# Altium footprint library GL865_V4.PcbLib: 1 footprints
Each footprint in its own frame and in the unit in brackets; x right, y up, seen from the top. Pads: shape width x height; smd on the part's side, far side on the other; paste and mask are expansions set on the pad; w line width, h text height; cw(c..) or ccw(c..) is an arc to the next point about the centre after c.
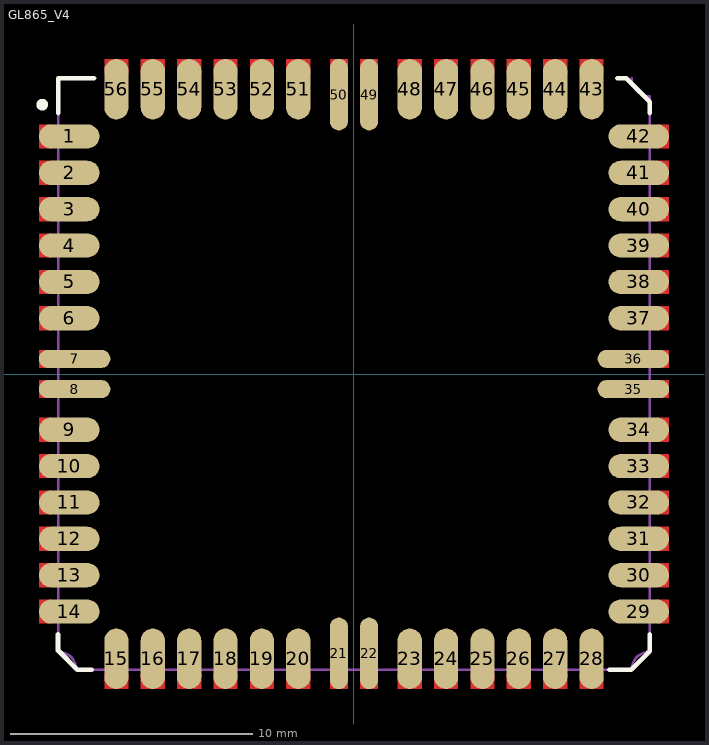
[diagram p0: the footprint, top view; thin cyan lines are the x and y axes]

## GL865_V4 [mm]
pads (56):
  oval 2.5x1 smd paste+0 mask+0.05: 1(-11.75,9.8) 2(-11.75,8.3) 3(-11.75,6.8) 4(-11.75,5.3) 5(-11.75,3.8) 6(-11.75,2.3) 9(-11.75,-2.3) 10(-11.75,-3.8) 11(-11.75,-5.3) 12(-11.75,-6.8) 13(-11.75,-8.3) 14(-11.75,-9.8) 29(11.75,-9.8) 30(11.75,-8.3) 31(11.75,-6.8) 32(11.75,-5.3) 33(11.75,-3.8) 34(11.75,-2.3) 37(11.75,2.3) 38(11.75,3.8) 39(11.75,5.3) 40(11.75,6.8) 41(11.75,8.3) 42(11.75,9.8)
  oval 2.95x0.75 smd paste+0 mask+0.05: 7(-11.525,0.625) 8(-11.525,-0.625) 35(11.525,-0.625) 36(11.525,0.625)
  oval 1x2.5 smd paste+0 mask+0.05: 15(-9.8,-11.75) 16(-8.3,-11.75) 17(-6.8,-11.75) 18(-5.3,-11.75) 19(-3.8,-11.75) 20(-2.3,-11.75) 23(2.3,-11.75) 24(3.8,-11.75) 25(5.3,-11.75) 26(6.8,-11.75) 27(8.3,-11.75) 28(9.8,-11.75) 43(9.8,11.75) 44(8.3,11.75) 45(6.8,11.75) 46(5.3,11.75) 47(3.8,11.75) 48(2.3,11.75) 51(-2.3,11.75) 52(-3.8,11.75) 53(-5.3,11.75) 54(-6.8,11.75) 55(-8.3,11.75) 56(-9.8,11.75)
  oval 0.75x2.95 smd paste+0 mask+0.05: 21(-0.625,-11.525) 22(0.625,-11.525) 49(0.625,11.525) 50(-0.625,11.525)
Top Layer:
  rectangle: 1.8,-13 2.8,-12.375
  rectangle: 4.8,-13 5.8,-12.375
  rectangle: 7.8,-13 8.8,-12.375
  rectangle: 9.3,-13 10.3,-12.375
  rectangle: 6.3,-13 7.3,-12.375
  rectangle: 3.3,-13 4.3,-12.375
  rectangle: -10.3,-13 -9.3,-12.375
  rectangle: -7.3,-13 -6.3,-12.375
  rectangle: -4.3,-13 -3.3,-12.375
  rectangle: -2.8,-13 -1.8,-12.375
  rectangle: -5.8,-13 -4.8,-12.375
  rectangle: -8.8,-13 -7.8,-12.375
  rectangle: 1.8,12.375 2.8,13
  rectangle: 4.8,12.375 5.8,13
  rectangle: 7.8,12.375 8.8,13
  rectangle: 9.3,12.375 10.3,13
  rectangle: 6.3,12.375 7.3,13
  rectangle: 3.3,12.375 4.3,13
  rectangle: -8.8,12.375 -7.8,13
  rectangle: -5.8,12.375 -4.8,13
  rectangle: -2.8,12.375 -1.8,13
  rectangle: -4.3,12.375 -3.3,13
  rectangle: -7.3,12.375 -6.3,13
  rectangle: -10.3,12.375 -9.3,13
  rectangle: 12.5,-2.8 13,-1.8
  rectangle: 12.5,-4.3 13,-3.3
  rectangle: 12.5,-7.3 13,-6.3
  rectangle: 12.5,-5.8 13,-4.8
  rectangle: 12.5,-10.3 13,-9.3
  rectangle: 12.5,-8.8 13,-7.8
  rectangle: 12.5,9.3 13,10.3
  rectangle: 12.5,7.8 13,8.8
  rectangle: 12.5,4.8 13,5.8
  rectangle: 12.5,6.3 13,7.3
  rectangle: 12.5,1.8 13,2.8
  rectangle: 12.5,3.3 13,4.3
  rectangle: -13,-2.8 -12.5,-1.8
  rectangle: -13,-4.3 -12.5,-3.3
  rectangle: -13,-7.3 -12.5,-6.3
  rectangle: -13,-5.8 -12.5,-4.8
  rectangle: -13,-10.3 -12.5,-9.3
  rectangle: -13,-8.8 -12.5,-7.8
  rectangle: -13,3.3 -12.5,4.3
  rectangle: -13,1.8 -12.5,2.8
  rectangle: -13,6.3 -12.5,7.3
  rectangle: -13,4.8 -12.5,5.8
  rectangle: -13,7.8 -12.5,8.8
  rectangle: -13,9.3 -12.5,10.3
  rectangle: 12.5,-1 13,-0.25
  rectangle: 12.5,0.25 13,1
  region: -0.25,12.5 -0.25,13 -1,13 -1,12.5
  region: 1,12.5 1,13 0.25,13 0.25,12.5
  region: -12.5,-0.25 -13,-0.25 -13,-1 -12.5,-1
  region: -12.5,1 -13,1 -13,0.25 -12.5,0.25
  region: 0.25,-12.5 0.25,-13 1,-13 1,-12.5
  region: -1,-12.5 -1,-13 -0.25,-13 -0.25,-12.5
Top Overlay:
  circle w0.254: c-12.86,11.11 r0.114
  lines w0.2: -12.21,-10.75 -12.21,-11.4 -11.41,-12.2 -10.82,-12.2 ; -12.2,10.77 -12.2,12.2 -10.72,12.2 ; 10.54,-12.2 11.43,-12.2 12.2,-11.43 12.2,-10.75 ; 10.87,12.2 11.23,12.2 12.2,11.23 12.2,10.77
Mechanical 1:
  lines w0.1: -12.2,12.2 -12.2,-11.45 cw(c-12.2,-12.2) -11.45,-12.2 11.45,-12.2 cw(c12.2,-12.2) 12.2,-11.45 12.2,11.45 cw(c12.2,12.2) 11.45,12.2
3D body "User Library-Telit  GL865-DUAL V3.STEP": height 2.56, standoff 0, extent -12.2,-12.2 12.2,12.2